# Altium schematic symbol library Connector-Power.SchLib: 2 symbols
Pins are listed as number, name and electrical type; pins without a type are passive.

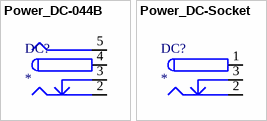
[diagram p0: symbols Power_DC-044B to Power_DC-Socket]

## Power_DC-044B
designator DC?
厂家型号: *; 商品编号: *
footprint Power_DC-044B-3A-2.5
pins: 2 (power), 3 (power), 4 (power), 5

## Power_DC-Socket
designator DC?
厂家型号: *; 商品编号: *
footprint Power_DC-005 (5.5X2.1mm)
pins: 1 (power), 2 (power), 3 (power)